# EAGLE library part 10127820-0821LF (library 10127820-0821LF)
Minitek Pwr 4.2, Dual Row, Vertical Through Hole Header, Gold Flash plating, Natural Color, 8 Positions, Non GW Compatible Nylon66, Tray Packing. Source: Datasheet <https://cdn.amphenol-cs.com/media/wysiwyg/files/drawing/10127820.pdf>
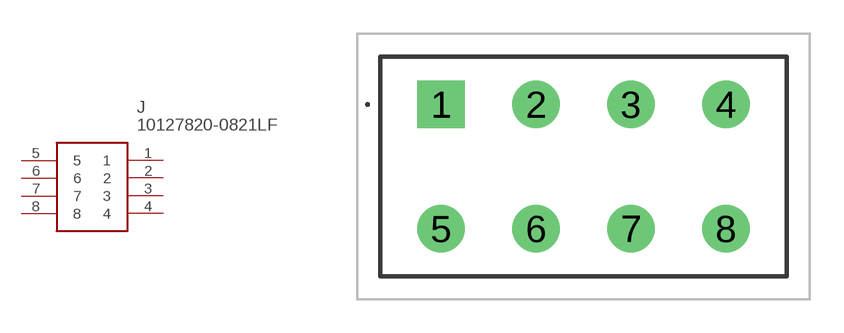
[diagram p0: symbol with the pads of 101278200821LF; footprint 101278200821LF]

Designator prefix J

## 10127820-0821LF (Description: Minitek<sup></sup> Pwr 4.2, Dual Row, Vertical Through Hole Header, Gold Flash plating, Natural Color, 8 Positions, Non GW Compatible Nylon66, Tray Packing.; Height: 14.65mm; Manufacturer_Name: Amphenol Communications Solutions; Manufacturer_Part_Number: 10127820-0821LF)  [101278200821LF]
1  1
2  2
3  3
4  4
5  5
6  6
7  7
8  8

## Footprint 101278200821LF (pad centres in mm)
10127820-0821LF-2
drill 1.4 pad 2.1 square: 1 0,0
drill 1.4 pad 2.1: 2 4.2,0; 3 8.4,0; 4 12.6,0; 5 0,-5.5; 6 4.2,-5.5; 7 8.4,-5.5; 8 12.6,-5.5